# EAGLE library part 691413720005 (library Wurth_Elektronik_Electromechanic_Terminal_Blocks_Connectors_rev15c)
WR-TBL Terminal block - serie 413 5.0mm - Spring clamp/Screw less - 45° entry - 05p Code:Con_TBL_Screwless_5.00_6914137200xxB_691413720005 <http://katalog.we-online.de/media/images/eican/Con_TBL_Screwless_5.00_6914137200xxB_pf2.jpg> Details see: http://katalog.we-online.de/en/em/691_413_720_0xxB/691_413_720_005B?m Created 2014-12-22, aslant tao 2014 (C) Würth Elektronik
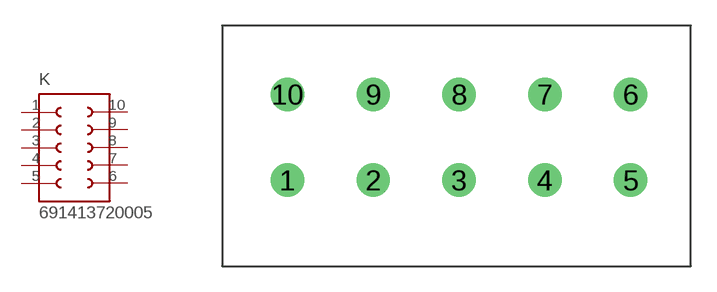
[diagram p282: symbol with the pads of 691413720005; footprint 691413720005]

Designator prefix K

## 691413720005  [691413720005]
1  1  pas
2  2  pas
3  3  pas
4  4  pas
5  5  pas
6  6  pas
7  7  pas
8  8  pas
9  9  pas
10  10  pas

## Footprint 691413720005 (pad centres in mm)
WR-TBL Serie 413 - 5.0mm Screwless 45° Entry - 3 mm2 Wires, 5 Pins
drill 1.3: 1 -10,-2.5; 2 -5,-2.5; 3 0,-2.5; 4 5,-2.5; 5 10,-2.5; 6 10,2.5; 7 5,2.5; 8 0,2.5; 9 -5,2.5; 10 -10,2.5